# Altium schematic symbol library LTC3862EUH#PBF.SchLib: 1 symbol
Pins are listed as number, name and electrical type; pins without a type are passive.

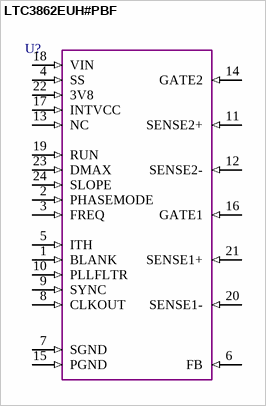
[diagram p0: symbol LTC3862EUH#PBF]

## LTC3862EUH#PBF
designator U?
pins: 1 BLANK (in), 2 PHASEMODE (in), 3 FREQ (in), 4 SS (in), 5 ITH (in), 6 FB (in), 7 SGND (in), 8 CLKOUT (in), 9 SYNC (in), 10 PLLFLTR (in), 11 SENSE2+ (in), 12 SENSE2- (in), 13 NC (in), 14 GATE2 (in), 15 PGND (in), 16 GATE1 (in), 17 INTVCC (in), 18 VIN (in), 19 RUN (in), 20 SENSE1- (in), 21 SENSE1+ (in), 22 3V8 (in), 23 DMAX (in), 24 SLOPE (in)